# EAGLE library part WIRL-PRO2_2603011121000 (library WE_WIRL_Rev13.0)
Triton - Radio Modules 2.4 GHz WIRL-PRO2 Radio module 2.4 GHz with RF pad Details see: https://we-online.de/katalog/en/article/2603011021000/
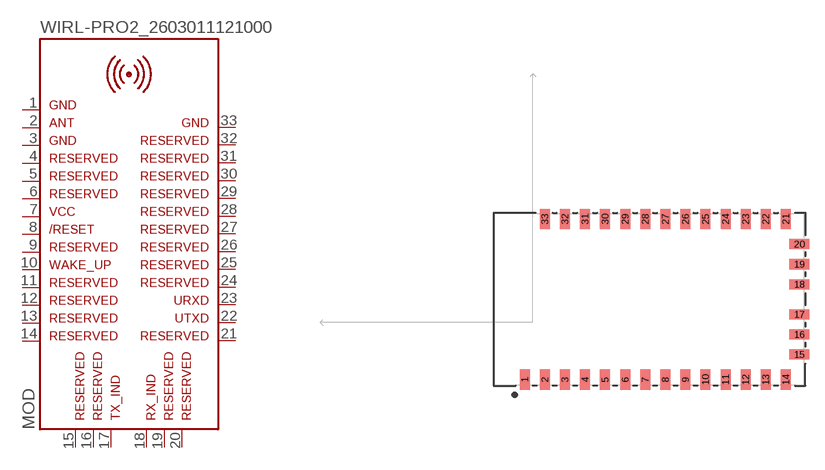
[diagram p3: symbol with the pads of WE-FP-2; footprint WE-FP-2]

Designator prefix MOD

## WIRL-PRO2_2603011121000 (HEIGHT: 3.6mm; MANUFACTURER: Würth Elektronik; NR: 2603011121000)  [WE-FP-2]
1  1  pas
2  2  pas
3  3  pas
4  4  pas
5  5  pas
6  6  pas
7  7  pas
8  8  in
9  9  pas
10  10  in
11  11  pas
12  12  pas
13  13  pas
14  14  pas
15  15  pas
16  16  pas
17  17  out
18  18  out
19  19  pas
20  20  in
21  21  pas
22  22  out
23  23  in
24  24  pas
25  25  pas
26  26  pas
27  27  pas
28  28  pas
29  29  pas
30  30  pas
31  31  pas
32  32  pas
33  33  pas

## Footprint WE-FP-2 (pad centres in mm)
smd 1 x 2: 1 -13,-8; 2 -11,-8; 3 -9,-8; 4 -7,-8; 5 -5,-8; 6 -3,-8; 7 -1,-8; 8 1,-8; 9 3,-8; 10 5,-8; 11 7,-8; 12 9,-8; 13 11,-8; 14 13,-8; 21 13,8; 22 11,8; 23 9,8; 24 7,8; 25 5,8; 26 3,8; 27 1,8; 28 -1,8; 29 -3,8; 30 -5,8; 31 -7,8; 32 -9,8; 33 -11,8
smd 2 x 1: 15 14.35,-5.5; 16 14.35,-3.5; 17 14.35,-1.5; 18 14.35,1.5; 19 14.35,3.5; 20 14.35,5.5